# Altium footprint library PCB - POWER INDUCTORS - TDK VLCF5028-2.PCBLIB: 1 footprints
Each footprint in its own frame and in the unit in brackets; x right, y up, seen from the top. Pads: shape width x height; smd on the part's side, far side on the other; paste and mask are expansions set on the pad; w line width, h text height; cw(c..) or ccw(c..) is an arc to the next point about the centre after c.
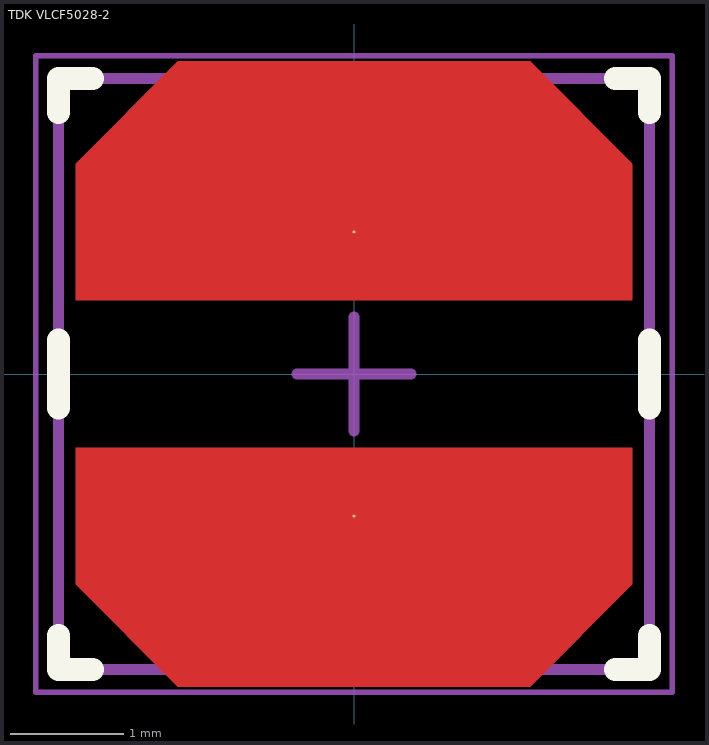
[diagram p0: the footprint, top view; thin cyan lines are the x and y axes]

## TDK VLCF5028-2 [mil] "Precision Wire Wound Inductor, 2-Leads, Body 5.00x5.00mm"
height 110.24
pads (2):
  round 1 smd: 1(0,49.21) 2(0,-49.21)
Top Layer:
  region: -96.46,-25.59 -96.46,-72.83 -61.02,-108.27 61.02,-108.27 96.46,-72.83 96.46,-25.59
  region: -96.46,25.59 -96.46,72.83 -61.02,108.27 61.02,108.27 96.46,72.83 96.46,25.59
Top Overlay:
  lines w7.87: -102.36,-90.55 -102.36,-102.36 -90.55,-102.36 ; -102.36,-11.81 -102.36,11.81 ; -102.36,90.55 -102.36,102.36 -90.55,102.36 ; 90.55,-102.36 102.36,-102.36 102.36,-90.55 ; 90.55,102.36 102.36,102.36 102.36,90.55 ; 102.36,-11.81 102.36,11.81
Mechanical 13:
  lines w3.94: -102.36,-102.36 102.36,-102.36 102.36,102.36 -102.36,102.36 -102.36,-102.36
Mechanical 15:
  lines w1.97: -110.24,-110.24 110.24,-110.24 110.24,110.24 -110.24,110.24 -110.24,-110.24
  lines w3.94: -19.68,0 19.69,0 ; 0,-19.68 0,19.69
3D body "TDK VLCF5028-2.step": height 110.28, standoff 0, extent -102.36,-103.15 102.36,103.15